# EAGLE library part TEXAS_INSTRUMENTS-PMIC-TPS65400QRGZRQ1 (library Module_Regulators)
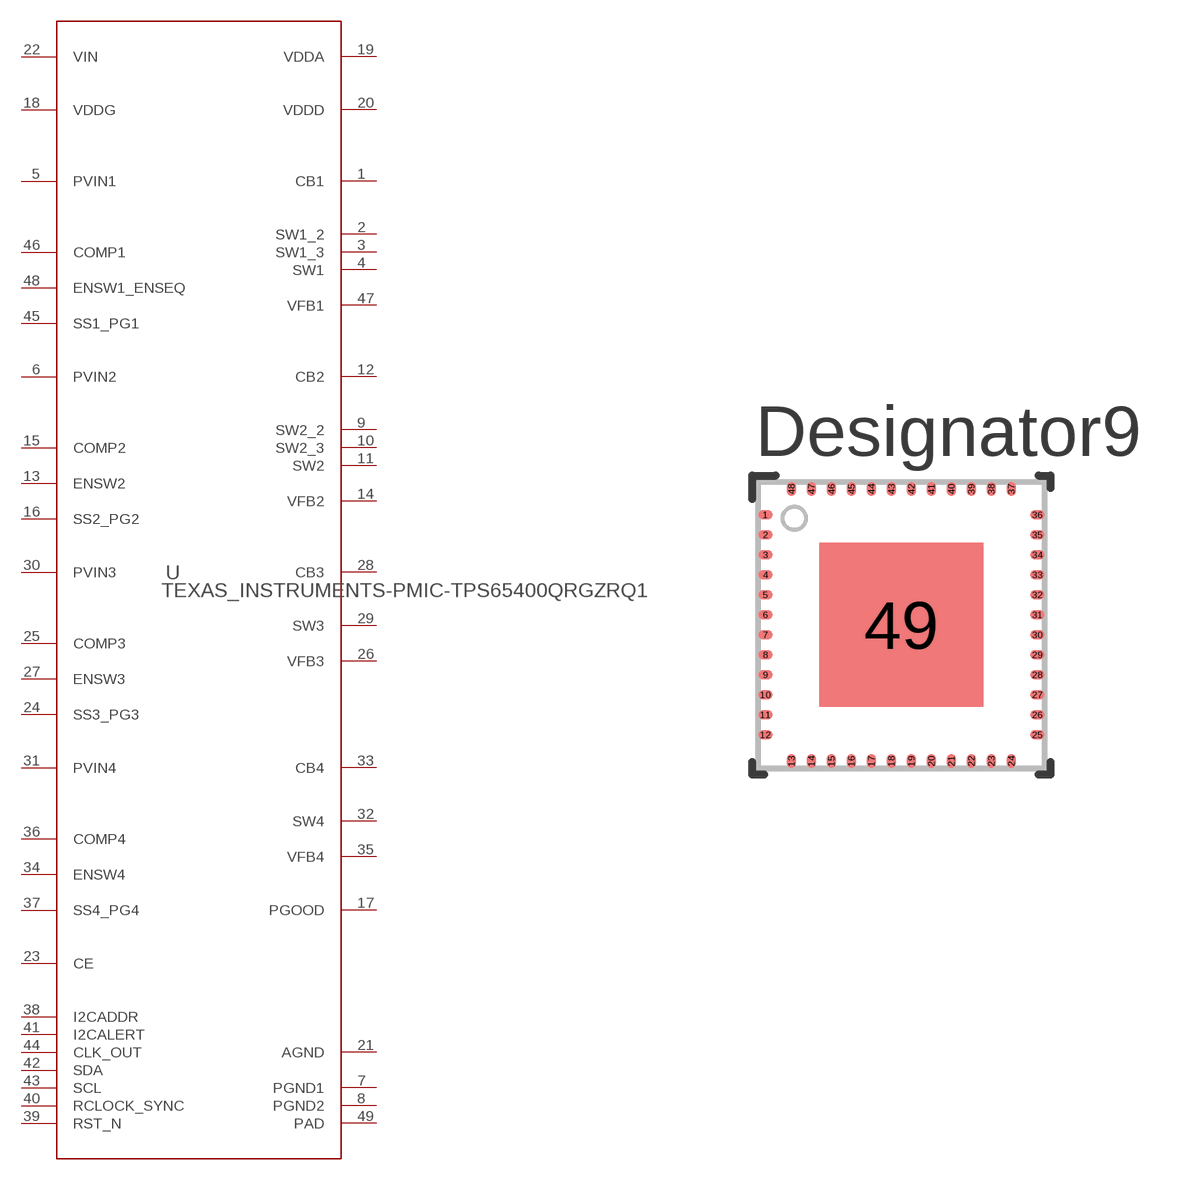
[diagram p23: symbol with the pads of TEXAS_INSTRUMENTS-PMIC-TPS65400QRGZRQ1; footprint TEXAS_INSTRUMENTS-PMIC-TPS65400QRGZRQ1]

Designator prefix U

## TEXAS_INSTRUMENTS-PMIC-TPS65400QRGZRQ1 (ALTERNATEPARTNUMBER: TPS65400QRGZTQ1; APPLICATION_BUILDNUMBER: *; COMPTYPE: IC; MANUFACTURER: Texas Instruments; MOUNTTYPE: SMT; PACKAGEREFERENCE: RGZ0048B; PARTNUMBER: TPS65400QRGZRQ1; PIN_COUNT: 49; REFDES: RefDes; ROHS: Y; TYPE: TYPE; VALUE: Value)  [TEXAS_INSTRUMENTS-PMIC-TPS65400QRGZRQ1]
1  CB1  pwr
2  SW1_2  pwr
3  SW1_3  pwr
4  SW1  pwr
5  PVIN1  pwr
6  PVIN2  pwr
7  PGND1  pwr
8  PGND2  pwr
9  SW2_2  pwr
10  SW2_3  pas
11  SW2  pwr
12  CB2  pwr
13  ENSW2  in
14  VFB2  in
15  COMP2  out
16  SS2_PG2
17  PGOOD  out
18  VDDG  pwr
19  VDDA  pwr
20  VDDD  pwr
21  AGND  pwr
22  VIN  pwr
23  CE  in
24  SS3_PG3
25  COMP3  out
26  VFB3  in
27  ENSW3  in
28  CB3  pwr
29  SW3  pwr
30  PVIN3  pwr
31  PVIN4  pwr
32  SW4  pwr
33  CB4  pwr
34  ENSW4  in
35  VFB4  in
36  COMP4  out
37  SS4_PG4
38  I2CADDR  in
39  RST_N  in
40  RCLOCK_SYNC  in
41  I2CALERT  out
42  SDA
43  SCL  in
44  CLK_OUT  out
45  SS1_PG1
46  COMP1  out
47  VFB1  in
48  ENSW1_ENSEQ  in
49  PAD  pas

## Footprint TEXAS_INSTRUMENTS-PMIC-TPS65400QRGZRQ1 (pad centres in mm)
smd 0.36 x 0.24: 1 -3.4,2.75; 2 -3.4,2.25; 3 -3.4,1.75; 4 -3.4,1.25; 5 -3.4,0.75; 6 -3.4,0.25; 7 -3.4,-0.25; 8 -3.4,-0.75; 9 -3.4,-1.25; 10 -3.4,-1.75; 11 -3.4,-2.25; 12 -3.4,-2.75; 25 3.4,-2.75; 26 3.4,-2.25; 27 3.4,-1.75; 28 3.4,-1.25; 29 3.4,-0.75; 30 3.4,-0.25; 31 3.4,0.25; 32 3.4,0.75; 33 3.4,1.25; 34 3.4,1.75; 35 3.4,2.25; 36 3.4,2.75
smd 0.24 x 0.36: 13 -2.75,-3.4; 14 -2.25,-3.4; 15 -1.75,-3.4; 16 -1.25,-3.4; 17 -0.75,-3.4; 18 -0.25,-3.4; 19 0.25,-3.4; 20 0.75,-3.4; 21 1.25,-3.4; 22 1.75,-3.4; 23 2.25,-3.4; 24 2.75,-3.4; 37 2.75,3.4; 38 2.25,3.4; 39 1.75,3.4; 40 1.25,3.4; 41 0.75,3.4; 42 0.25,3.4; 43 -0.25,3.4; 44 -0.75,3.4; 45 -1.25,3.4; 46 -1.75,3.4; 47 -2.25,3.4; 48 -2.75,3.4
smd 4.1 x 4.1: 49 0,0